# EAGLE library part LMZ10503EXT (library OSSI)
LMZ10503EXT June 14, 2011 3A SIMPLE SWITCHER® Power Module with 5.5V Maximum Input Voltage for Military and Rugged Applications
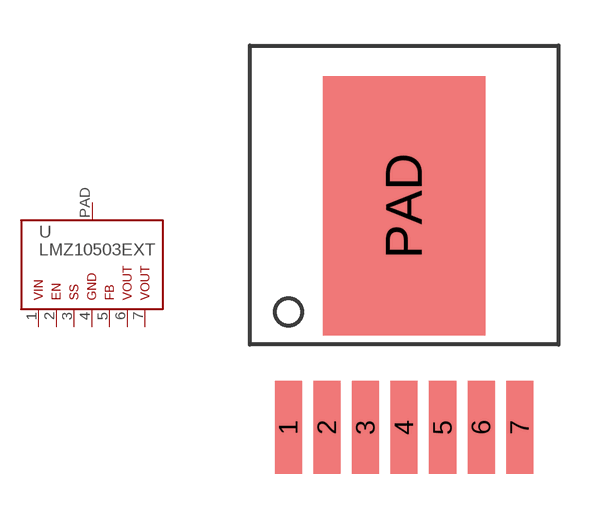
[diagram p52: symbol with the pads of TO-PMOD-7; footprint TO-PMOD-7]

Designator prefix U

## LMZ10503EXT  [TO-PMOD-7]
1  P$1  pwr
2  P$2  in
3  P$3  pas
4  P$4  pwr
5  P$5  in
6  P$6  pwr
7  P$7  pwr
PAD  P$8  pwr

## Footprint TO-PMOD-7 (pad centres in mm)
smd 0.89 x 3.06: 1 -3.81,0; 2 -2.54,0; 3 -1.27,0; 4 0,0; 5 1.27,0; 6 2.54,0; 7 3.81,0
smd 5.35 x 8.54: PAD 0,7.305